# Altium footprint library MICRO_USB-B.PcbLib: 1 footprints
Each footprint in its own frame and in the unit in brackets; x right, y up, seen from the top. Pads: shape width x height; smd on the part's side, far side on the other; paste and mask are expansions set on the pad; w line width, h text height; cw(c..) or ccw(c..) is an arc to the next point about the centre after c.
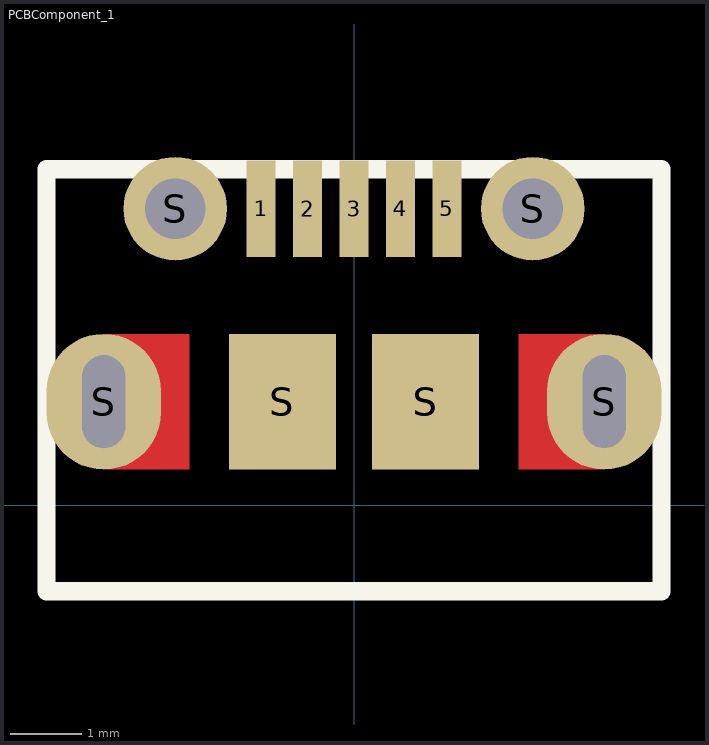
[diagram p0: the footprint, top view; thin cyan lines are the x and y axes]

## PCBComponent_1 [mm]
pads (11):
  rect 0.4x1.35 smd: 1(-1.3,4.15) 2(-0.65,4.15) 3(0,4.15) 4(0.65,4.15) 5(1.3,4.15)
  oval 1.6x1.9 hole 0.6 slot 1.3 at 90 deg: S(-3.5,1.45) S(3.5,1.45)
  round 1.45 hole 0.85: S(-2.5,4.15) S(2.5,4.15)
  rect 1.5x1.9 smd: S(-1,1.45) S(1,1.45)
Top Layer:
  rectangle: -3.5,0.5 -2.3,2.4
  rectangle: 2.3,0.5 3.5,2.4
Top Overlay:
  lines w0.254: -4.3,-1.2 -4.3,4.7 4.3,4.7 4.3,-1.2 -4.3,-1.2
3D body "ZX62D-AB-5P8.STEP": height 2.75, standoff -0.64, extent -4.325,-1.2 4.325,4.699